# Altium footprint library 532610671.PcbLib: 1 footprints
Each footprint in its own frame and in the unit in brackets; x right, y up, seen from the top. Pads: shape width x height; smd on the part's side, far side on the other; paste and mask are expansions set on the pad; w line width, h text height; cw(c..) or ccw(c..) is an arc to the next point about the centre after c.
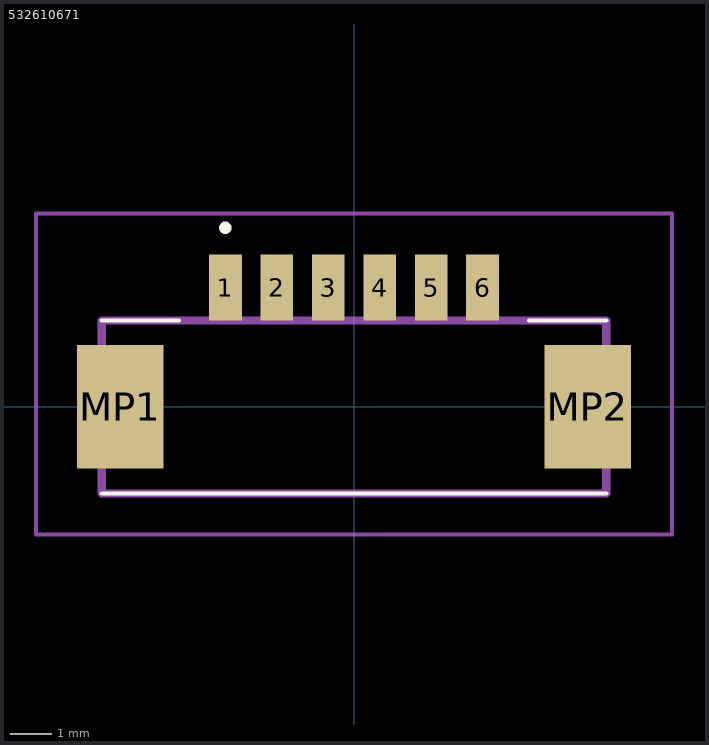
[diagram p0: the footprint, top view; thin cyan lines are the x and y axes]

## 532610671 [mm]
pads (8):
  rect 0.8x1.6 smd: 1(-3.125,2.9) 2(-1.875,2.9) 3(-0.625,2.9) 4(0.625,2.9) 5(1.875,2.9) 6(3.125,2.9)
  rect 2.1x3 smd: MP1(-5.675,0) MP2(5.675,0)
Top Overlay:
  lines w0.1: -6.125,-2.1 6.125,-2.1 ; -6.125,-2.1 6.125,-2.1 ; -6.125,-2.1 -6.125,-2.1 ; -6.125,2.1 -4.25,2.1 ; -6.125,2.1 -6.125,2.1 ; -6.125,2.1 -4.25,2.1 ; -4.25,2.1 -4.25,2.1 ; 4.25,2.1 6.125,2.1 ; 4.25,2.1 6.125,2.1 ; 4.25,2.1 4.25,2.1 ; 6.125,-2.1 6.125,-2.1 ; 6.125,2.1 6.125,2.1
  lines w0.2: -3.125,4.3 cw(c-3.125,4.35) -3.125,4.4 ; -3.125,4.3 -3.125,4.3 ; -3.125,4.3 ccw(c-3.125,4.35) -3.125,4.4 ; -3.125,4.3 cw(c-3.125,4.35) -3.125,4.4 ; -3.125,4.4 -3.125,4.4 ; -3.125,4.4 -3.125,4.4
Mechanical 15:
  lines w0.2: -6.125,-2.1 6.125,-2.1 6.125,2.1 -6.125,2.1 -6.125,-2.1
Mechanical 20:
  lines w0.1: -7.725,-3.1 7.725,-3.1 7.725,4.7 -7.725,4.7 -7.725,-3.1